# Altium footprint library Ceramic Capacitor.PcbLib: 6 footprints
Each footprint in its own frame and in the unit in brackets; x right, y up, seen from the top. Pads: shape width x height; smd on the part's side, far side on the other; paste and mask are expansions set on the pad; w line width, h text height; cw(c..) or ccw(c..) is an arc to the next point about the centre after c.
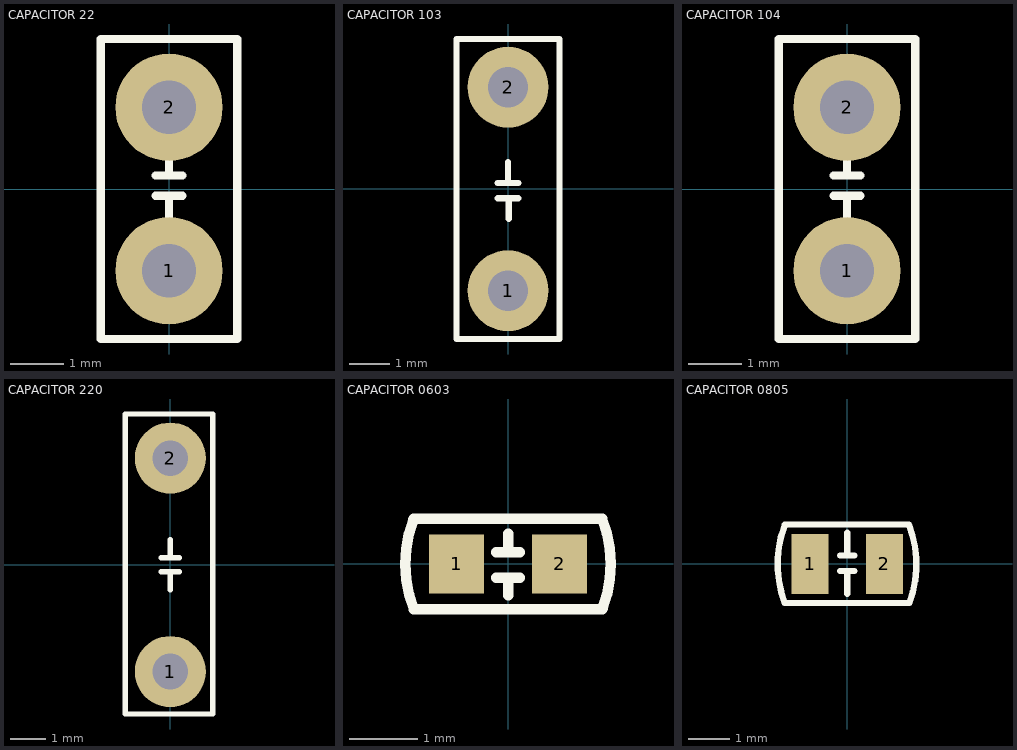
[diagram p0: the footprints below, top view; thin cyan lines are the x and y axes]

## CAPACITOR 22 [mm]
pads (2):
  round 2 hole 1: 1(0,-1.524) 2(0,1.524)
Top Overlay:
  lines w0.152: -0.254,0.254 0,0.254 ; 0,-0.635 0,-0.127 -0.254,-0.127 0.254,-0.127 ; 0,0.762 0,0.254 ; 0.254,0.254 0,0.254 ; -1.27,-2.794 -1.27,2.794 1.27,2.794 1.27,-2.794 -1.27,-2.794
3D body "C22_D_3.5mm_P3mm.STEP": height 4.25, standoff -1.5, extent -1.017,-1.75 1.026,1.75

## CAPACITOR 103 [mm]
pads (2):
  round 2 hole 1: 1(0,-2.516) 2(0,2.516)
Top Overlay:
  lines w0.152: -0.254,-0.23 0.254,-0.23 ; -0.254,0.151 0,0.151 ; -0.237,-0.23 0.017,-0.23 0.017,-0.738 ; 0,0.659 0,0.151 ; 0.254,0.151 0,0.151 ; -1.27,-3.71 1.27,-3.71 1.27,3.707 -1.27,3.707 -1.27,-3.71
Mechanical 1:
  lines w0.254: -0.017,-2.482 0.017,-2.516
3D body "Ceramic Cap, 5mm lead spacing, 4mm width, and 5.5mm tall, v4 v2.step": height 5.3, standoff -2, extent -1.2,-2.928 1.254,2.722

## CAPACITOR 104 [mm]
pads (2):
  round 2 hole 1: 1(0,-1.524) 2(0,1.524)
Top Overlay:
  lines w0.152: -0.254,0.254 0,0.254 ; 0,-0.635 0,-0.127 -0.254,-0.127 0.254,-0.127 ; 0,0.762 0,0.254 ; 0.254,0.254 0,0.254 ; -1.27,-2.794 -1.27,2.794 1.27,2.794 1.27,-2.794 -1.27,-2.794
3D body "C104_Disc_D5mm_P3mm.STEP": height 5.5, standoff -2, extent -1.017,-2.5 1.016,2.5

## CAPACITOR 220 [mm]
pads (2):
  round 2 hole 1: 1(0,-3) 2(0,3)
Top Overlay:
  lines w0.152: -0.254,-0.2 0.254,-0.2 ; -0.254,0.2 0,0.2 ; 0,-0.7 0,-0.2 ; 0,0.708 0,0.2 ; 0.254,0.2 0,0.2 ; -1.27,-4.194 1.194,-4.194 1.194,4.239 -1.27,4.239 -1.27,-4.194

## CAPACITOR 0603 [mm]
pads (2):
  rect 0.806x0.864 smd: 1(-0.753,0) 2(0.753,0)
Top Overlay:
  lines w0.152: -1.388,0.651 ccw(c0.345,0.004) -1.382,-0.66 ; -1.385,-0.661 1.379,-0.662 ; -1.385,0.66 1.379,0.66 ; -0.175,-0.202 0.175,-0.202 ; -0.175,0.173 0.175,0.173 ; 0.004,-0.456 0.004,-0.202 ; 0.004,0.173 0.004,0.444 ; 1.379,0.658 cw(c-0.348,-0.006) 1.385,-0.653
3D body "CAPACITOR_0603.step": height 0.81, standoff 0.01, extent -0.795,-0.397 0.805,0.403

## CAPACITOR 0805 [mm]
pads (2):
  rect 0.9x1.45 smd: 1(-0.9,0) 2(0.9,0)
Top Overlay:
  lines w0.152: -1.513,-0.938 cw(c0.97,0) -1.51,0.944 ; -1.509,-0.95 1.501,-0.95 ; -1.499,0.95 1.491,0.95 ; -0.174,-0.175 0.176,-0.175 ; -0.174,0.2 0.176,0.2 ; 0.001,-0.725 0.001,-0.175 ; 0.001,0.2 0.001,0.75 ; 1.497,0.942 cw(c-0.98,-0.01) 1.506,-0.938
3D body "Capacitor SMD 0805.step": height 0.61, standoff 0.01, extent -1.029,-0.62 0.971,0.63